# EAGLE library part MAX5437 (library WCSMain)
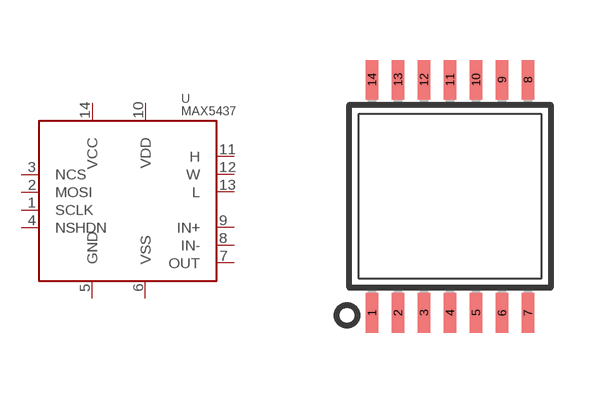
[diagram p10: symbol with the pads of TSSOP14; footprint TSSOP14]

Designator prefix -

## MAX5437  [TSSOP14]
1  SCLK  pas
2  MOSI  pas
3  NCS  pas
4  NSHDN  pas
5  GND  pas
6  VSS  pas
7  OUT  pas
8  IN-  pas
9  IN+  pas
10  VDD  pas
11  H  pas
12  W  pas
13  L  pas
14  VCC  pas

## Footprint TSSOP14 (pad centres in mm)
Thin Shrink Small Outline Plastic 14 MAX3223-MAX3243.pdf
smd 0.305 x 0.991: 1 -1.95,-2.918; 2 -1.3,-2.918; 3 -0.65,-2.918; 4 0,-2.918; 5 0.65,-2.918; 6 1.3,-2.918; 7 1.95,-2.918; 8 1.95,2.918; 9 1.3,2.918; 10 0.65,2.918; 11 0,2.918; 12 -0.65,2.918; 13 -1.3,2.918; 14 -1.95,2.918